# EAGLE library part MS05-2A87 (library ardustat)
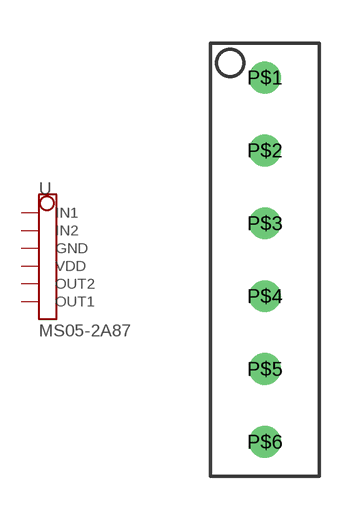
[diagram p17: symbol with the pads of MS05-2A87; footprint MS05-2A87]

Designator prefix -

## MS05-2A87  [MS05-2A87]
P$1  IN1
P$2  IN2
P$3  GND
P$4  VDD
P$5  OUT2
P$6  OUT1

## Footprint MS05-2A87 (pad centres in mm)
drill 0.6: P$1 0,6.35; P$2 0,3.81; P$3 0,1.27; P$4 0,-1.27; P$5 0,-3.81; P$6 0,-6.35